# Altium footprint library PcbLib1.PcbLib: 264 footprints (part 2 of 17)
Each footprint in its own frame and in the unit in brackets; x right, y up, seen from the top. Pads: shape width x height; smd on the part's side, far side on the other; paste and mask are expansions set on the pad; w line width, h text height; cw(c..) or ccw(c..) is an arc to the next point about the centre after c.
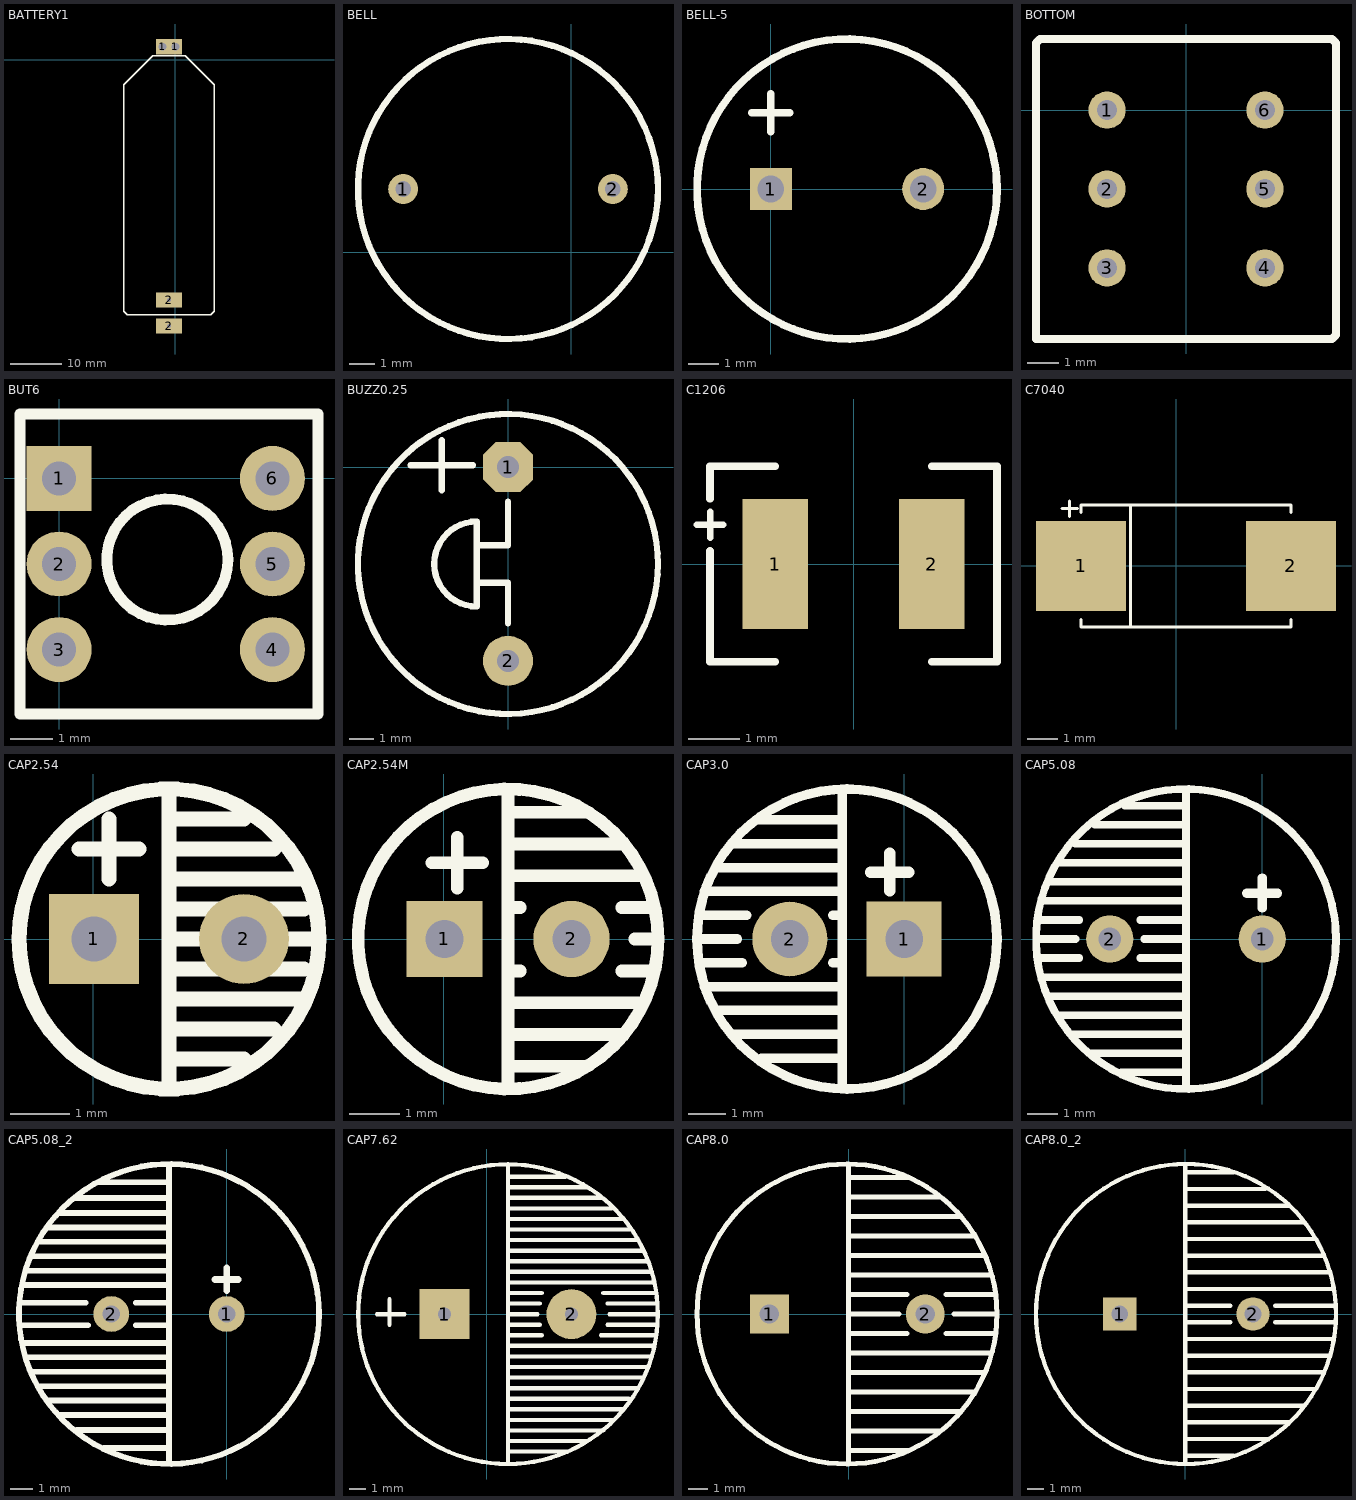
[diagram p1: the footprints below, top view; thin cyan lines are the x and y axes]

## BATTERY1 [mm] "18mm*49.5mm"
height 20
pads (4):
  rect 2.54x3 hole 1.5: 1(-2.54,2.54) 1(0,2.54)
  rect 5.08x3 hole 0.7: 2(-1.27,-52.07) 2(-1.27,-46.99)
Top Overlay:
  lines w0.254: -10.16,-46.736 -10.16,-44.577 -10.16,-6.604 -10.16,-4.953 -4.445,0.762 1.905,0.762 7.62,-4.953 7.62,-44.323 7.62,-49.149 6.858,-49.911 -9.398,-49.911 -10.16,-49.149 -10.16,-46.609

## BELL [mm] "BELL"
height 10
pads (2):
  round 1.2 hole 0.635: 1(-6.731,2.54) 2(1.651,2.54)
Top Overlay:
  circle w0.254: c-2.54,2.54 r6

## BELL-5 [mil] "PIN:5MM,SIZE:10MM"
height 118.11
pads (2):
  rect 55x55 hole 35: 1(0,0)
  round 55 hole 35: 2(200,0)
Top Overlay:
  circle w10: c100,0 r196.85
  lines w10: -25,100 25,100 ; 0,75 0,125

## BOTTOM [mm]
height 20
pads (6):
  round 1.2 hole 0.635: 1(-2.54,0) 2(-2.54,-2.54) 3(-2.54,-5.08) 4(2.54,-5.08) 5(2.54,-2.54) 6(2.54,0)
Top Overlay:
  lines w0.254: -4.826,-7.366 4.699,-7.366 4.826,-7.239 4.826,2.159 4.699,2.286 -2.032,2.286 -4.699,2.286 -4.826,2.159 -4.826,-7.366

## BUT6 [mil] "7mm*7mm"
height 393.7
pads (6):
  rect 60x60 hole 31.5: 1(0,-0.06)
  round 60 hole 31.5: 2(0,-79.06) 3(0,-158.06) 4(197,-158.06) 5(197,-79.06) 6(197,-0.06)
Top Overlay:
  circle w10: c100,-75 r55.9
  lines w10: -36,-217.56 239,-217.56 239,59.44 -36,59.44 -36,-217.56

## BUZZ0.25 [mil]
pads (2):
  oct 80x80 hole 35.43: 1(0,0)
  round 80 hole 35.43: 2(0,-310)
Top Overlay:
  circle w10: c0,-155 r240
  lines w10: -156,3 -56,3 ; -106,-37 -106,43 ; -50,-185 0,-185 0,-250 ; -50,-125 0,-125 0,-55 ; -50,-223.01 cw(c-50,-155) -50,-86.99 -50,-223.01

## C1206 [mil] "C1206"
height 1
pads (2):
  rect 50x100 smd: 1(-60,0) 2(60,0)
Top Overlay:
  lines w5: -120,30 -100,30 ; -110,20 -110,40
  lines w6: -110,10 -110,-75 -60,-75 ; -110,50 -110,75 ; -100,75 -110,75 ; -60,75 -110,75 ; 60,-75 110,-75 110,75 60,75

## C7040 [mm] "7MM*4MM"
height 2
pads (2):
  rect 3x3 smd: 1(-3.175,0) 2(3.81,0)
Top Overlay:
  lines w0.1: -3.81,1.905 -3.302,1.905 ; -3.556,1.651 -3.556,2.159 ; -3.175,-1.778 -3.175,-2.032 3.81,-2.032 3.81,-1.778 ; -3.175,1.778 -3.175,2.032 3.81,2.032 3.81,1.778 ; -1.524,-2.032 -1.524,2.032

## CAP2.54 [mil] "RB.1/.2"
height 196.85
pads (2):
  rect 60x60 hole 30: 1(0.42,0.23)
  round 60 hole 30: 2(100.42,0.23)
Top Overlay:
  circle w10: c50.42,0.23 r100
  lines w10: -9.58,60.23 30.42,60.23 ; 10.42,40.23 10.42,80.23 ; 50.42,-99.77 50.42,100.23 ; 50.42,-79.77 100.42,-79.77 ; 50.42,-59.77 120.42,-59.77 ; 50.42,-39.77 140.42,-39.77 ; 50.42,-19.77 140.42,-19.77 ; 50.42,0.23 150.42,0.23 ; 50.42,20.23 140.42,20.23 ; 50.42,40.23 140.42,40.23 ; 50.42,60.23 120.42,60.23 ; 50.42,80.23 100.42,80.23

## CAP2.54M [mil] "6mm*8mm"
height 314.96
pads (2):
  rect 60x60 hole 30: 1(0.42,0.23)
  round 60 hole 30: 2(100.42,0.23)
Top Overlay:
  circle w10: c50.42,0.23 r118.11
  lines w10: -9.58,60.23 30.42,60.23 ; 10.42,40.23 10.42,80.23 ; 50.42,-115 50.42,115 ; 50.42,-100 110,-100 ; 50.42,-75 140,-75 ; 50.42,-50 155,-50 ; 50.42,-25 60,-25 ; 50.42,25 60,25 ; 50.42,50 155,50 ; 50.42,75 140,75 ; 50.42,100 110,100 ; 140,-25 165,-25 ; 140,25 165,25 ; 150.23,0.23 168.53,0.23

## CAP3.0 [mm] "100V 10uF"
height 12
pads (2):
  rect 2x2 hole 1: 1(0,0)
  round 2 hole 1: 2(-3.048,0)
Top Overlay:
  circle w0.254: c-1.524,0 r4
  lines w0.254: -5.461,-0.635 -4.318,-0.635 ; -5.461,0 -4.445,0 ; -5.461,0.635 -4.191,0.635 ; -5.334,-1.27 -1.651,-1.27 ; -5.334,1.27 -1.651,1.27 ; -4.953,-1.905 -1.651,-1.905 ; -4.953,1.905 -1.651,1.905 ; -4.572,-2.54 -1.651,-2.54 ; -4.572,2.54 -1.651,2.54 ; -3.937,3.175 -1.651,3.175 ; -3.81,-3.175 -1.651,-3.175 ; -1.905,-0.635 -1.651,-0.635 ; -1.905,0.635 -1.651,0.635 ; -1.651,-3.937 -1.651,3.937
  lines w0.305: -0.897,1.778 0.127,1.778 ; -0.381,1.286 -0.381,2.286

## CAP5.08 [mil] "RB.2/.4"
height 393.7
pads (2):
  round 62 hole 30: 1(0,0) 2(-200,0)
Top Overlay:
  circle w10: c-100,0 r196.85
  lines w10: -295,-25 -240,-25 ; -295,0 -245,0 ; -295,25 -240,25 ; -290,-50 -100,-50 ; -285,50 -100,50 ; -280,-75 -100,-75 ; -280,75 -100,75 ; -265,-100 -100,-100 ; -265,100 -100,100 ; -250,-125 -100,-125 ; -245,125 -100,125 ; -225,-150 -100,-150 ; -220,150 -100,150 ; -185,-175 -100,-175 ; -180,175 -100,175 ; -160,-25 -100,-25 ; -160,25 -100,25 ; -155,0 -100,0 ; -100,-195 -100,195
  lines w12: -20.32,60 20,60 ; 0,40.63 0,80

## CAP5.08_2 [mil] "RB 5.08/13"
height 393.7
pads (2):
  round 62 hole 30: 1(0,0) 2(-200,0)
Top Overlay:
  circle w10: c-100,0 r259.84
  lines w10: -358.27,-19.68 -295.16,-19.68 -240.16,-19.68 ; -358.27,19.68 -244.09,19.68 ; -354.33,50 -100,50 ; -353.15,-50 -290,-50 -100,-50 ; -346.46,-75 -100,-75 ; -346.46,75 -100,75 ; -338.58,100 -100,100 ; -334.65,-100 -100,-100 ; -326.77,-125 -100,-125 ; -326.77,125 -100,125 ; -311.02,-150 -100,-150 ; -311.02,150 -100,150 ; -291.34,-175 -100,-175 ; -287.4,175 -100,175 ; -263.78,200.79 -100,200.79 ; -259.84,-200.79 -100,-200.79 ; -220.47,228.35 -100,228.35 ; -212.6,-232.28 -100,-232.28 ; -157.48,-19.68 -100,-19.68 ; -157.48,19.68 -100,19.68 ; -100,-255.91 -100,255.91
  lines w12: -20.32,60 20,60 ; 0,40.63 0,80

## CAP7.62 [mm] "25V 2200uF"
height 15
pads (2):
  rect 3x3 hole 0.8: 1(-2.54,0)
  round 3 hole 0.8: 2(5.08,0)
Top Overlay:
  circle w0.254: c1.27,0 r9
  lines w0.254: -6.604,0 -4.953,0 ; -5.842,-0.635 -5.842,0.889 ; 1.27,-8.89 1.27,9.017 ; 1.27,-8.255 4.826,-8.255 ; 1.27,-7.62 5.969,-7.62 ; 1.27,-6.985 6.985,-6.985 ; 1.27,-6.35 7.62,-6.35 ; 1.27,-5.715 8.128,-5.715 ; 1.27,-5.08 8.509,-5.08 ; 1.27,-4.445 9.017,-4.445 ; 1.27,-3.81 9.398,-3.81 ; 1.27,-3.175 9.652,-3.175 ; 1.27,-2.54 9.906,-2.54 ; 1.27,-1.905 10.033,-1.905 ; 1.27,-1.27 3.302,-1.27 ; 1.27,-0.635 3.175,-0.635 ; 1.27,0 3.048,0 ; 1.27,0.635 3.175,0.635 ; 1.27,1.27 3.302,1.27 ; 1.27,1.905 10.033,1.905 ; 1.27,2.54 9.906,2.54 ; 1.27,3.175 9.652,3.175 ; 1.27,3.81 9.398,3.81 ; 1.27,4.445 9.017,4.445 ; 1.27,5.08 8.636,5.08 ; 1.27,5.715 8.128,5.715 ; 1.27,6.35 7.493,6.35 ; 1.27,6.985 6.858,6.985 ; 1.27,7.62 5.969,7.62 ; 1.27,8.255 4.699,8.255 ; 6.858,-1.27 10.16,-1.27 ; 6.985,1.27 10.16,1.27 ; 7.239,-0.635 10.16,-0.635 ; 7.239,0.635 10.16,0.635 ; 7.366,0 10.27,0

## CAP8.0 [mm] "25V/4700uF"
height 27
pads (2):
  rect 2x2 hole 1: 1(-4.064,0)
  round 2 hole 1: 2(3.937,0)
Top Overlay:
  circle w0.254: c-0.08,0 r7.7
  lines w0.254: 0,-7.7 0,7.7 ; 0,-7 3.1,-7 ; 0,-6 4.7,-6 ; 0,-5 5.7,-5 ; 0,-4 6.5,-4 ; 0,-3 6.9,-3 ; 0,-2 7.3,-2 ; 0,-1 3,-1 ; 0,0 2.6,0 ; 0,1 3,1 ; 0,2 7.2,2 ; 0,3 6.9,3 ; 0,4 6.5,4 ; 0,5 5.7,5 ; 0,6 4.7,6 ; 0,7 3.1,7 ; 5,-1 7.5,-1 ; 5,1 7.5,1 ; 5.4,0 7.62,0

## CAP8.0_2 [mm] "50V/4700uF"
height 30
pads (2):
  rect 2x2 hole 1: 1(-3.937,0)
  round 2 hole 1: 2(4.064,0)
Top Overlay:
  circle w0.254: c0.047,0 r9
  lines w0.254: 0,-8.818 0,8.9 ; 0,-8.5 2.9,-8.5 ; 0,-6.5 6.2,-6.5 ; 0,-5.5 7.1,-5.5 ; 0,-4.5 7.8,-4.5 ; 0,-3.5 8.3,-3.5 ; 0,-2.5 8.6,-2.5 ; 0,-1.5 8.9,-1.5 ; 0,-0.5 2.7,-0.5 ; 0,0.5 2.7,0.5 ; 0,1.5 8.9,1.5 ; 0,2.5 8.6,2.5 ; 0,3.5 8.2,3.5 ; 0,4.5 7.7,4.5 ; 0,5.5 7.1,5.5 ; 0,6.5 6.2,6.5 ; 0,7.5 4.8,7.5 ; 0,8.5 2.9,8.5 ; 0.1,-7.5 5,-7.5 ; 5.4,-0.5 9,-0.5 ; 5.4,0.5 9,0.5